# Altium footprint library terminal.PcbLib: 49 footprints (part 4 of 4)
Each footprint in its own frame and in the unit in brackets; x right, y up, seen from the top. Pads: shape width x height; smd on the part's side, far side on the other; paste and mask are expansions set on the pad; w line width, h text height; cw(c..) or ccw(c..) is an arc to the next point about the centre after c.
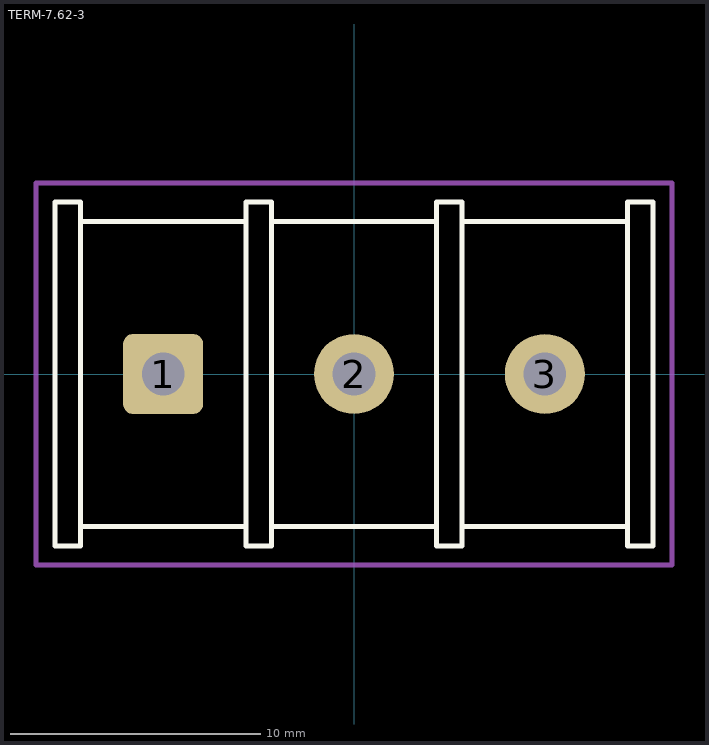
[diagram p3: the footprint, top view; thin cyan lines are the x and y axes]

## TERM-7.62-3 [mm]
pads (3):
  rrect25% 3.2x3.2 hole 1.7: 1(-7.62,0)
  round 3.2 hole 1.7: 2(0,0) 3(7.62,0)
Top Overlay:
  lines w0.2: -10.922,-6.096 -4.318,-6.096 ; -10.922,6.096 -4.318,6.096 ; -3.302,-6.096 3.302,-6.096 ; -3.302,6.096 3.302,6.096 ; 4.318,-6.096 10.922,-6.096 ; 4.318,6.096 10.922,6.096 ; -11.938,-6.858 -10.922,-6.858 -10.922,6.858 -11.938,6.858 -11.938,-6.858 ; -4.318,-6.858 -3.302,-6.858 -3.302,6.858 -4.318,6.858 -4.318,-6.858 ; 3.302,-6.858 4.318,-6.858 4.318,6.858 3.302,6.858 3.302,-6.858 ; 10.922,-6.858 10.922,6.858 11.938,6.858 11.938,-6.858 10.922,-6.858
Mechanical 13:
  lines w0.2: -12.7,-7.62 12.7,-7.62 12.7,7.62 -12.7,7.62 -12.7,-7.62
  text ".Designator" at -4.826,-1.524 h3
Mechanical 15:
  lines w0.05: -12.7,-7.62 -12.7,7.62 12.7,7.62 12.7,-7.62 -12.7,-7.62
  lines w0.1: -0.5,0 0.5,0 ; 0,-0.5 0,0.5